# EAGLE library part KT0913 (library MakBit)
KT0913 - Monolithic Digital AM/FM Receiver Worldwide full band FM/AM support. FM: 32MHz-110MHz; AM: 500KHz-1710KHz High Sensitivity: 1.6uVEMF for FM; 16uVEMF for AM High Fidelity SNR (FM/AM): 60dB/55dB Low Supply Current 22mA (operating) Automatic antenna tuning, AFC, AGC, SNR meter, I2C driver Support dial and digital key for frequency tuning and volume control.
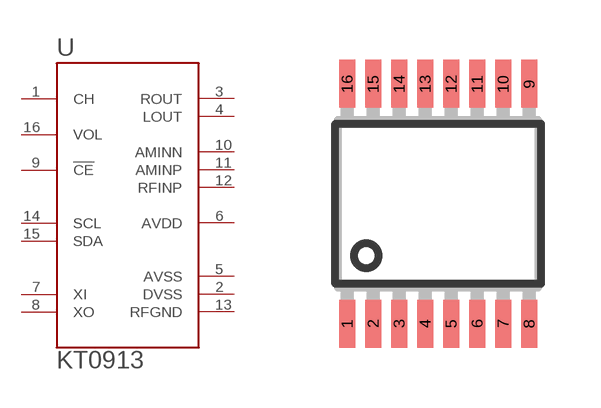
[diagram p2: symbol with the pads of SSOP16L; footprint SSOP16L]

Designator prefix U

## KT0913  [SSOP16L]
1  CH
2  DVSS  pwr
3  ROUT  out
4  LOUT  out
5  AVSS  pwr
6  AVDD  pwr
7  XI
8  XO
9  !CE
10  AMINN
11  AMINP
12  RFINP
13  RFGND  pwr
14  SCL
15  SDA
16  VOL

## Footprint SSOP16L (pad centres in mm)
Small Shrink Outline Package
smd 0.4 x 1.2: 1 -2.275,-3; 2 -1.625,-3; 3 -0.975,-3; 4 -0.325,-3; 5 0.325,-3; 6 0.975,-3; 7 1.625,-3; 8 2.275,-3; 9 2.275,3; 10 1.625,3; 11 0.975,3; 12 0.325,3; 13 -0.325,3; 14 -0.975,3; 15 -1.625,3; 16 -2.275,3